# EAGLE library part ADG719 (library Analog Devices)
ADG719: 2:1 Mux/SPDT switch in SOT-23 no links because I am in the car dammit just use google
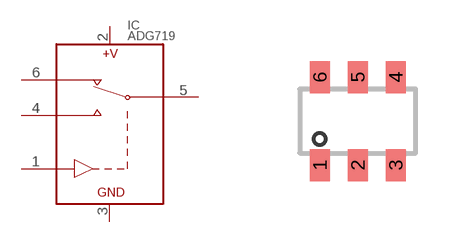
[diagram p2: symbol with the pads of SOT23-6_(RJ-6); footprint SOT23-6_(RJ-6)]

Designator prefix IC

## ADG719 (PARTNO: ADG719BRTZ)  [SOT23-6_(RJ-6)]
1  IN  in
2  VCC  pwr
3  GND  pwr
4  S1
5  D
6  S2

## Footprint SOT23-6_(RJ-6) (pad centres in mm)
this footprint is made from lies because Analog decided not to give out land patterns for their packages
smd 0.5 x 0.8: 1 -0.95,-1.1; 2 0,-1.1; 3 0.95,-1.1; 4 0.95,1.1; 5 0,1.1; 6 -0.95,1.1